# EAGLE library part LORA_BREAKOUT_V2 (library cosmic-id)
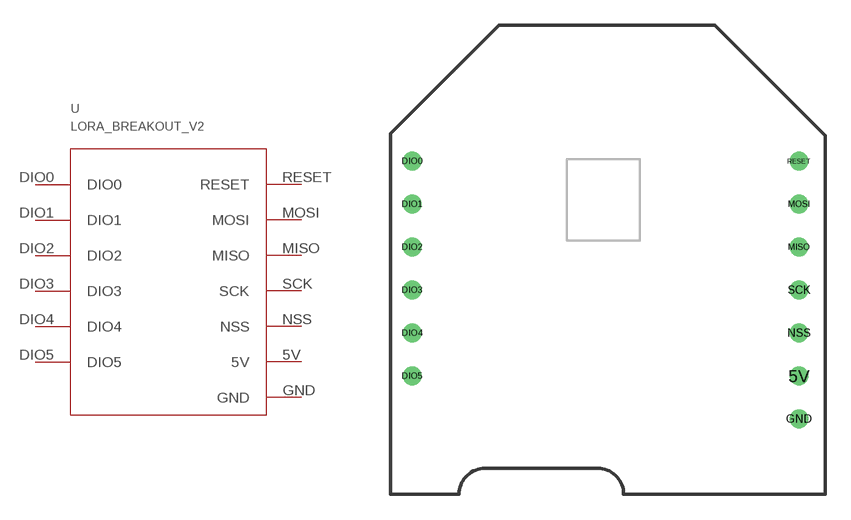
[diagram p0: symbol with the pads of 2X8; footprint 2X8]

Designator prefix -

## LORA_BREAKOUT_V2  [2X8]
5V  5V
DIO0  DIO0
DIO1  DIO1
DIO2  DIO2
DIO3  DIO3
DIO4  DIO4
DIO5  DIO5
GND  GND
MISO  MISO
MOSI  MOSI
NSS  NSS
RESET  RESET
SCK  SCK

## Footprint 2X8 (pad centres in mm)
drill 0.6: 5V 24.13,6.985; DIO0 1.27,19.685; DIO1 1.27,17.145; DIO2 1.27,14.605; DIO3 1.27,12.065; DIO4 1.27,9.525; DIO5 1.27,6.985; GND 24.13,4.445; MISO 24.13,14.605; MOSI 24.13,17.145; NSS 24.13,9.525; RESET 24.13,19.685; SCK 24.13,12.065